# Altium footprint library fromST.PcbLib: 65 footprints (part 1 of 5)
Each footprint in its own frame and in the unit in brackets; x right, y up, seen from the top. Pads: shape width x height; smd on the part's side, far side on the other; paste and mask are expansions set on the pad; w line width, h text height; cw(c..) or ccw(c..) is an arc to the next point about the centre after c.
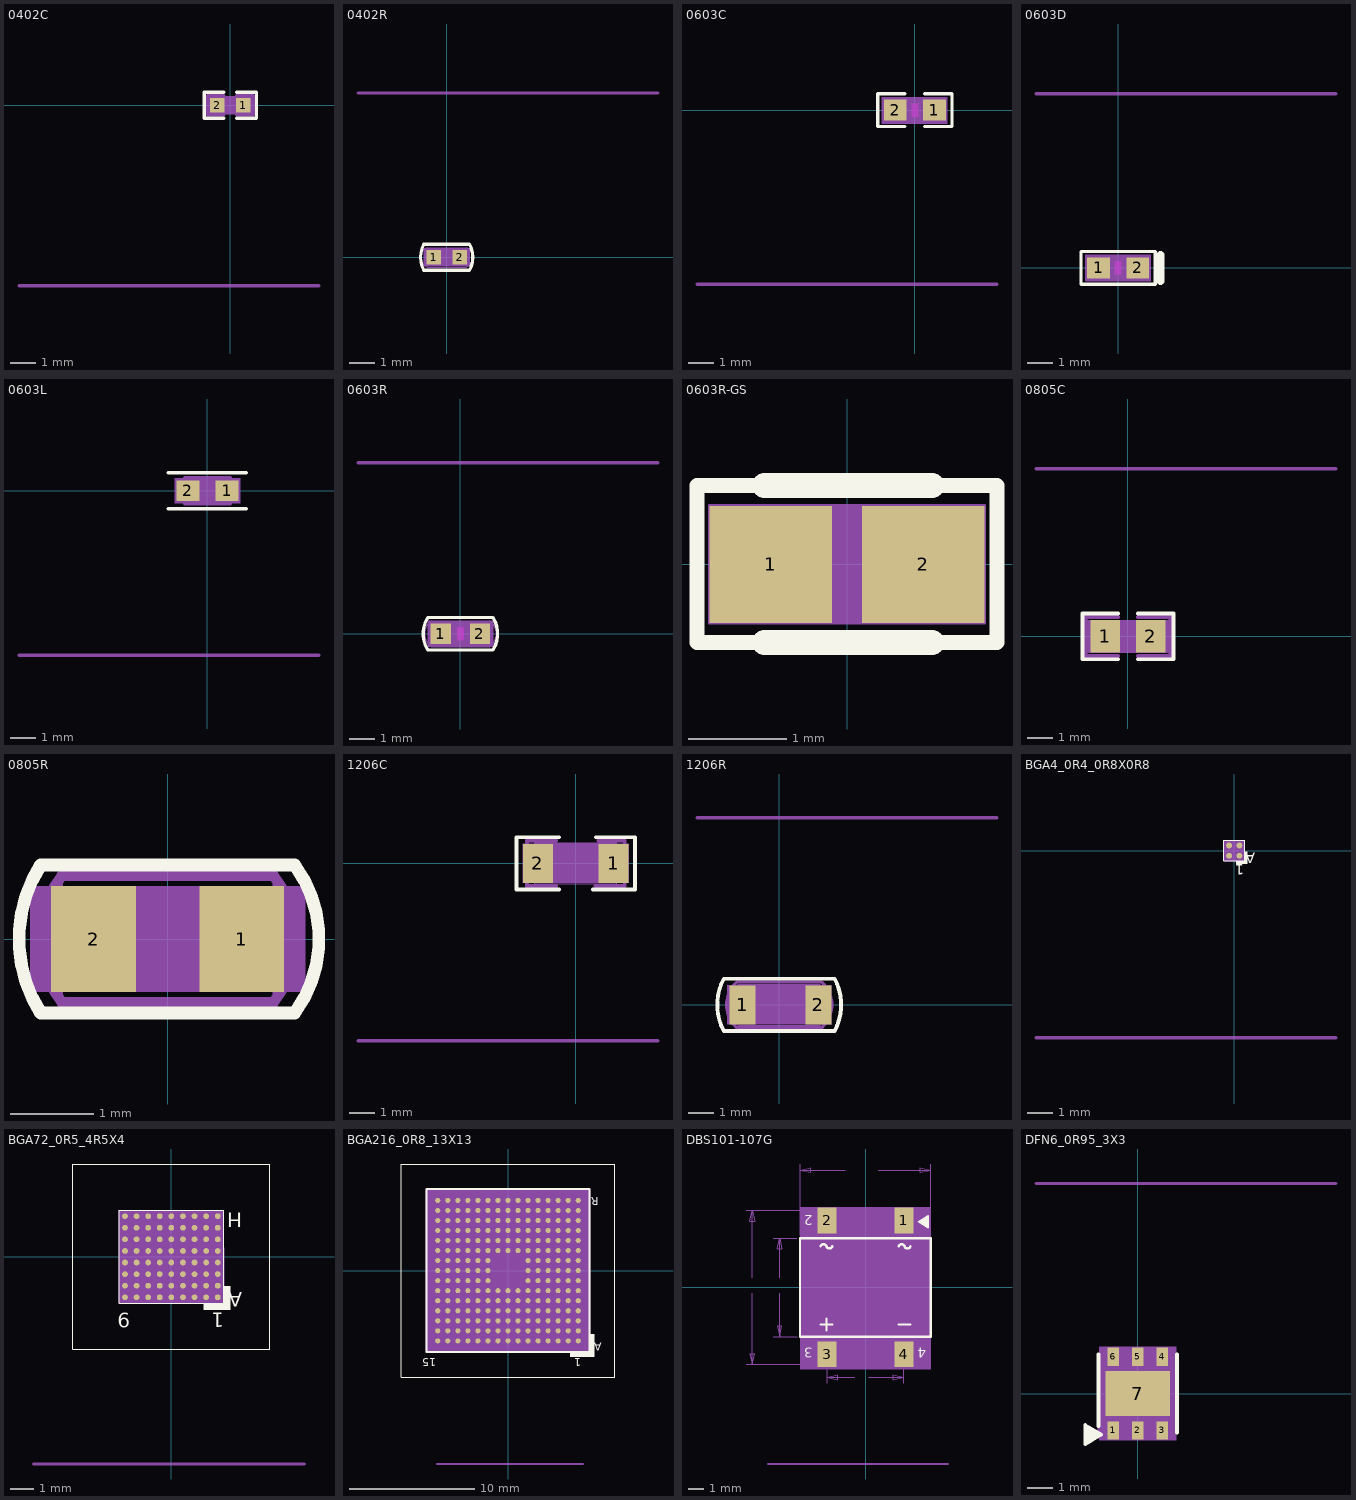
[diagram p0: the footprints below, top view; thin cyan lines are the x and y axes]

## 0402C [mil]
pads (2):
  rect 22x22 smd: 1(20,0) 2(-20,0)
Top Overlay:
  lines w5: -10,-20 -40,-20 -40,20 -10,20 ; 10,-20 40,-20 40,20 10,20
Mechanical 32:
  region: 35,14 35,-14 -35,-14 -35,14
  lines w1: -20,-10 -20,10 20,10 20,-10 -20,-10
  lines w5: -324,-277 136,-277 ; -10,-15 -35,-15 -35,15 -10,15 ; 10,-15 35,-15 35,15 10,15
  text "NO" at 5,43 h34
  text "100nF" at 0,50 h20
  text "C0402" at 0,115 h25
  text "Remark: ***" at 106,-77 h25
  text "Rev   : A1" at 106,-117 h25
  text "Date  : 2008-12-12" at 106,-157 h25
  text "Ref PN: ***" at 106,-237 h25
  text "Sofer Lib Information" at 136,-287 h25
  text "Creat : Sofer Tech" at 106,-197 h25
  text ".Designator" at 0,42 h20
  text "2" at -20,6.4 h16
  text "1" at 20,6.4 h16
3D body: height 150, standoff 0, extent -35,-14 35,14

## 0402R [mil]
pads (2):
  rect 22x22 smd: 1(-20,0) 2(20,0)
Top Overlay:
  lines w5: -35,-20 cw(c2.5,0) -35,20 35,20 cw(c-2.5,0) 35,-20 -35,-20
Mechanical 32:
  region: -35,-14 -35,14 35,14 35,-14
  lines w1: -30,-15 cw(c-23.75,0) -30,15 30,15 cw(c23.75,0) 30,-15 -30,-15 ; -20,-10 -20,10 20,10 20,-10 -20,-10
  lines w5: -136,252 324,252
  text "Approved" at 147,-10 h34
  text "10K" at 24,-10 h20
  text "R0402" at 50,-55 h25
  text "Remark: ***" at -106,52 h25
  text "Rev   : A4" at -106,92 h25
  text "Date  : 2007-11-24" at -106,132 h25
  text "Ref PN: ***" at -106,212 h25
  text "Sofer Lib Information" at -136,262 h25
  text "Creat : Sofer Tech" at -106,172 h25
  text ".Designator" at 32,-10 h20
  text "2" at 26.4,0 h16
  text "1" at -13.6,0 h16
3D body: height 150, standoff 0, extent -35,-14 35,14

## 0603C [mil]
pads (2):
  rect 35x32 smd: 1(30,0) 2(-30,0)
Top Layer keep-out:
  region: 5,10 -5,10 -5,-10 5,-10
Top Overlay:
  lines w5: -15,-25 -57,-25 -57,25 -15,25 ; 15,-25 57,-25 57,25 15,25
Mechanical 32:
  region: 50,20 50,-20 -50,-20 -50,20
  pour cut-out: 50,20 -50,20 -50,-20 50,-20
  lines w1: -15,-20 -50,-20 -50,20 -15,20 ; 15,-20 30,-20 50,-20 50,20 15,20 ; -35,-20 -35,20 35,20 35,-20 -35,-20
  lines w5: -334,-267 126,-267
  text "Remark: ***" at 96,-67 h25
  text "Rev   : B1" at 96,-107 h25
  text "Date  : 2007-05-10" at 96,-147 h25
  text "Creat : Sofer Tech" at 96,-187 h25
  text "Ref PN: ***" at 96,-227 h25
  text "Sofer Lib Information" at 126,-277 h25
  text "Approved" at -112,0 h34
  text "10nF_X7R_10%_0603" at -136,10 h20
  text "C0603" at -60,65 h30
  text ".Designator" at -40,12.67 h25
  text "2" at -36.4,0 h16
  text "1" at 23.6,0 h16
3D body: height 150, standoff 0, extent -50,-20 50,20

## 0603D [mil]
pads (2):
  rect 35x32 smd: 1(-30,0) 2(30,0)
Top Layer keep-out:
  region: -5,-10 5,-10 5,10 -5,10
Top Overlay:
  lines w5: -57,-25 -57,25 57,25 57,-25 -57,-25
  lines w12: 65,-20 65,20
Mechanical 32:
  pour cut-out: 40,20 40,-20 50,-20 50,20
  region: -50,-20 50,-20 50,20 -50,20
  pour cut-out: -50,-20 50,-20 50,20 -50,20
  lines w1: -15,-20 -50,-20 -50,20 -30,20 -15,20 ; 15,-20 50,-20 50,20 15,20 ; -35,-20 -35,20 35,20 35,-20 -35,-20
  lines w5: -126,267 334,267
  text "Rev   : B1" at -96,107 h25
  text "Date  : 2007-05-10" at -96,147 h25
  text "Creat : Sofer Tech" at -96,187 h25
  text "Ref PN: ***" at -96,227 h25
  text "Sofer Lib Information" at -126,277 h25
  text "Approved" at 0,-112 h35
  text "LED, green" at 0,-90 h20
  text "d0603" at 0,-125 h30
  text ".Designator" at 0,-42.67 h25
  text "1" at -30,-6.4 h16
  text "2" at 30,-6.4 h16
3D body: height 150, standoff 0, extent -50,-20 50,20

## 0603L [mil]
pads (2):
  rect 35x32 smd: 1(30,0) 2(-30,0)
Top Overlay:
  lines w5: -60,-27.5 60,-27.5 ; -60,27.5 60,27.5 15,27.5
Mechanical 32:
  pour cut-out: 50,19 50,-19 -50,-19 -50,19
  region: 50,19 -50,19 -50,-19 50,-19
  lines w1: -35,-20 -35,20 35,20 35,-20 -35,-20
  lines w5: -289,-252 171,-252 ; -35,-20 35,-20 ; -35,20 35,20
  text "Remark: ***" at 141,-52 h25
  text "Rev   : B1" at 141,-92 h25
  text "Date  : 2007-11-27" at 141,-132 h25
  text "Creat : Sofer Tech" at 141,-172 h25
  text "Ref PN: ***" at 141,-212 h25
  text "Sofer Lib Information" at 171,-262 h25
  text "FCM1608KF-601T03" at 0,-117 h30
  text "L0603" at 5,10 h30
  text "Approved" at -15,-100.33 h35
  text ".Designator" at 0,-11.33 h30
  text "2" at -30,-6.4 h16
  text "1" at 30,-6.4 h16
3D body: height 150, standoff 0, extent -50,-19 50,19

## 0603R [mil]
pads (2):
  rect 31x32 smd: 1(-30,0) 2(30,0)
Top Layer keep-out:
  region: -5,10 -5,-10 5,-10 5,10
Top Overlay:
  lines w5: -50,-25 cw(c-8.86,0) -50,25 50,25 cw(c8.86,0) 50,-25 -50,-25
Mechanical 32:
  region: -50,-20 50,-20 50,20 -50,20
  pour cut-out: -50,-20 50,-20 50,20 -50,20
  lines w1: -45,-20 cw(c-30,0) -45,20 45,20 cw(c30,0) 45,-20 -45,-20 ; -35,-20 -35,20 35,20 35,-20 -35,-20
  lines w5: -157,262 303,262
  text "Remark: ***" at -127,62 h25
  text "Rev   : B1" at -127,102 h25
  text "Date  : 2007-05-10" at -127,142 h25
  text "Creat : Sofer Tech" at -127,182 h25
  text "Ref PN: ***" at -127,222 h25
  text "Sofer Lib Information" at -157,272 h25
  text "13K_1%_0603" at 0,78 h20
  text "Approved" at 0,112 h34
  text "R0603" at 0,-5 h30
  text ".Designator" at -1,18 h25
  text "2" at 30,6.4 h16
  text "1" at -30,6.4 h16
3D body: height 150, standoff 0, extent -50,-20 50,20

## 0603R-GS [mil]
pads (2):
  rect 49x47 smd mask+2: 1(-30.51,0) 2(30.51,0)
Top Overlay:
  lines w6: -60.04,-31.3 60.04,-31.3 60.04,31.69 -60.04,31.69 -60.04,-31.3
  lines w10: -33,-31.3 34,-31.3 ; -33,31.69 34,31.69
  text ".Designator" at 87.5,-17 h34
Mechanical 16:
  region: -55.12,-23.62 55.12,-23.62 55.12,23.62 -55.12,23.62
  lines w1: -55.12,-23.62 55.12,-23.62 55.12,23.62 -55.12,23.62 -55.12,-23.62
Mechanical 32:
  text "2" at -30.51,10 h25
  text "1" at 30.51,10 h25
3D body: height 150, standoff 0, extent -55.12,-23.62 55.12,23.62

## 0805C [mil]
pads (2):
  rect 45x50 smd: 1(-35,0) 2(35,0)
Top Overlay:
  lines w6: -15,-35 -70,-35 -70,35 -15,35 ; 15,-35 70,-35 70,35 15,35
  text ".Designator" at 180,25 h34
Mechanical 32:
  region: -65,-25 65,-25 65,25 -65,25
  lines w1: -40,-24.6 -40,24.6 40,24.6 40,-24.6 -40,-24.6
  lines w5: -141,257 319,257
  lines w6: -15,-30 -65,-30 -65,30 -15,30 ; 15,-30 65,-30 65,30 15,30
  text "Approved" at 0,-112 h35
  text "Remark: ***" at -111,57 h25
  text "Rev   : B1" at -111,97 h25
  text "Date  : 2009-07-15" at -111,137 h25
  text "Creat : Sofer Tech" at -111,177 h25
  text "Ref PN: ***" at -111,217 h25
  text "Sofer Lib Information" at -141,267 h25
  text "100nF_100V_X7R_10%_0805" at -10,-351 h30
  text "C0805" at -15,-135 h30
  text "1" at -35,-6.4 h16
  text "2" at 35,-6.4 h16
3D body: height 150, standoff 0, extent -65,-25 65,25

## 0805R [mil]
pads (2):
  rect 40x50 smd: 1(35,0) 2(-35,0)
Top Overlay:
  lines w6: -60,-35 cw(c-5.27,0) -60,35 60,35 cw(c12.41,0) 60,-35 -60,-35
  text ".Designator" at -180,-15 h34
Mechanical 32:
  region: 65,25 65,-25 -65,-25 -65,25
  lines w1: -50,-30 -50,30 50,30 50,-30 -50,-30
  lines w5: -50,-30 cw(c-10,0) -50,30 50,30 cw(c11.25,0) 50,-30 -50,-30
  text "0_5%_0805" at 90,13.34 h25
  text "R0805" at 60,75 h30
  text "Approved" at 112,0 h35
  text "2" at -28.6,0 h16
  text "1" at 41.4,0 h16
3D body: height 150, standoff 0, extent -65,-25 65,25

## 1206C [mil]
pads (2):
  rect 46x60 smd: 1(58,0) 2(-58,0)
Top Overlay:
  lines w6: -26,-40 -91,-40 -91,40 -26,40 ; 26,-40 91,-40 91,40 31,40
Mechanical 32:
  region: 81,30 -81,30 -81,-30 81,-30
  lines w1: -63,-31.5 -63,31.5 63,31.5 63,-31.5 -63,-31.5
  lines w5: -334,-272 126,-272
  lines w6: -30,-35 -75,-35 -75,35 -30,35 ; 30,-35 75,-35 75,35 35,35
  text "2.2uF" at 10,20 h30
  text "C1206" at 10,20 h30
  text "Remark: ***" at 96,-72 h25
  text "Rev   : C1" at 96,-112 h25
  text "Date  : 2010-12-15" at 96,-152 h25
  text "Creat : Sofer Tech" at 96,-192 h25
  text "Ref PN: ***" at 96,-232 h25
  text "Sofer Lib Information" at 126,-282 h25
  text "Approved" at 0,-112 h34
  text ".Designator" at 51,21.67 h34
  text "2" at -58,-6.4 h16
  text "1" at 58,-6.4 h16
3D body: height 150, standoff 0, extent -81,-30 81,30

## 1206R [mil]
pads (2):
  rect 40x60 smd: 1(-56,0) 2(60,0)
Top Overlay:
  lines w6: -85,-40 cw(c-10,0) -85,40 85,40 cw(c10,0) 85,-40 -85,-40
Mechanical 32:
  region: -80,-30 80,-30 80,30 -80,30
  lines w1: -63,-31.5 63,-31.5 63,31.5 -63,31.5 -63,-31.5
  lines w5: -126,287 334,287 ; -65,-35 cw(c-33.65,0) -65,35 65,35 cw(c33.65,0) 65,-35 -65,-35
  text "1" at -49.6,0 h16
  text "2" at 66.4,0 h16
  text ".Designator" at 28,-20 h35
  text "Approved" at 112,0 h35
  text "Sofer Lib Information" at -126,297 h25
  text "Ref PN: ***" at -96,247 h25
  text "Creat : Sofer Tech" at -96,207 h25
  text "Date  : 2010-12-15" at -96,167 h25
  text "Rev   : C1" at -96,127 h25
  text "Remark: ***" at -96,87 h25
  text "R1206" at 50,-80 h30
  text "0.47_1%_1206" at 134,-80 h30
3D body: height 150, standoff 0, extent -80,-30 80,30

## BGA4_0R4_0R8X0R8 [mil]
pads (4):
  round 9 smd mask+2: A1(7.87,-7.87) A2(-7.87,-7.87) B1(7.87,7.87) B2(-7.87,7.87)
Top Overlay:
  pour cut-out: 3,-16 3,-20 20,-20 20,-2 16,-2 16,-16
  lines w1: -15.75,-15.75 15.75,-15.75 15.75,15.75 -15.75,15.75 -15.75,-15.75
  text "1" at 15.4,-21 h16
  text "A" at 32.4,-3 h16
  text ".Designator" at 42,32 h34
Mechanical 32:
  region: 16,16 -16,16 -16,-16 16,-16
  pour cut-out: -7,-16 16,7 16,-16
  lines w1: -15.75,-15.75 15.75,-15.75 15.75,15.75 -15.75,15.75 -15.75,-15.75
  lines w5: -304,-287 156,-287
  text "OK" at 28,0 h35
  text "Remark: LWF_PRO_01" at 126,-87 h23.62
  text "Rev   : A1" at 126,-127 h23.62
  text "Date  : 2010-12-13" at 126,-167 h23.62
  text "Creat : Yuki" at 126,-207 h23.62
  text "Ref PN: TPS22901YFPR" at 126,-247 h23.62
  text "Sofer Lib Information" at 156,-297 h23.62
  text "ESDA14V2-2BF3" at 147,128 h30
  text "BGA4_0R4_0R8X0R8" at 173,118 h30
  text "A1" at 20.67,-2.87 h16
  text "A2" at 4.93,-2.87 h16
  text "B2" at 4.93,12.87 h16
  text "B1" at 20.67,12.87 h16
3D body: height 150, standoff 0, extent -16,-16 16,16

## BGA72_0R5_4R5X4 [mm]
pads (72):
  round 0.249 smd mask+0.051: A1(2,-1.75) A2(1.5,-1.75) A3(1,-1.75) A4(0.5,-1.75) A5(0,-1.75) A6(-0.5,-1.75) A7(-1,-1.75) A8(-1.5,-1.75) A9(-2,-1.75) B1(2,-1.25) B2(1.5,-1.25) B3(1,-1.25) B4(0.5,-1.25) B5(0,-1.25) B6(-0.5,-1.25) B7(-1,-1.25) B8(-1.5,-1.25) B9(-2,-1.25) C1(2,-0.75) C2(1.5,-0.75) C3(1,-0.75) C4(0.5,-0.75) C5(0,-0.75) C6(-0.5,-0.75) C7(-1,-0.75) C8(-1.5,-0.75) C9(-2,-0.75) D1(2,-0.25) D2(1.5,-0.25) D3(1,-0.25) D4(0.5,-0.25) D5(0,-0.25) D6(-0.5,-0.25) D7(-1,-0.25) D8(-1.5,-0.25) D9(-2,-0.25) E1(2,0.25) E2(1.5,0.25) E3(1,0.25) E4(0.5,0.25) E5(0,0.25) E6(-0.5,0.25) E7(-1,0.25) E8(-1.5,0.25) E9(-2,0.25) F1(2,0.75) F2(1.5,0.75) F3(1,0.75) F4(0.5,0.75) F5(0,0.75) F6(-0.5,0.75) F7(-1,0.75) F8(-1.5,0.75) F9(-2,0.75) G1(2,1.25) G2(1.5,1.25) G3(1,1.25) G4(0.5,1.25) G5(0,1.25) G6(-0.5,1.25) G7(-1,1.25) G8(-1.5,1.25) G9(-2,1.25) H1(2,1.75) H2(1.5,1.75) H3(1,1.75) H4(0.5,1.75) H5(0,1.75) H6(-0.5,1.75) H7(-1,1.75) H8(-1.5,1.75) H9(-2,1.75)
Top Overlay:
  pour cut-out: 1.397,-2.032 1.397,-2.286 2.54,-2.286 2.54,-1.27 2.286,-1.27 2.286,-2.032
  lines w0.025: -4.25,-4 4.25,-4 4.25,4 -4.25,4 -4.25,-4 ; -2.256,-2.011 -2.256,2.011 2.256,2.011 2.256,-2.011 -2.256,-2.011
  text ".Designator" at 2.667,-4.445 h0.89
  text "1" at 2.286,-2.413 h0.64
  text "9" at -1.778,-2.413 h0.64
  text "A" at 3.048,-1.524 h0.64
  text "H" at 3.048,1.905 h0.64
Mechanical 16:
  region: 2.256,2.011 2.256,-2.011 -2.256,-2.011 -2.256,2.011
  pour cut-out: 2.256,2.011 2.256,-2.011 -2.256,-2.011 -2.256,2.011
  pour cut-out: 2.286,-2.032 -0.127,-2.032 2.286,0.381
  lines w0.025: -2.256,-2.011 -2.256,2.011 2.256,2.011 2.256,-2.011 -2.256,-2.011
  lines w0.127: -5.944,-8.941 5.74,-8.941
Mechanical 32:
  text "D6" at -0.5,-0.49 h0.3
  text "E8" at -1.5,0.01 h0.3
  text "E7" at -1,0.01 h0.3
  text "F7" at -1,0.51 h0.3
  text "H9" at -2,1.51 h0.3
  text "A4" at 0.5,-1.99 h0.3
  text "A3" at 1,-1.99 h0.3
  text "A5" at 0,-1.99 h0.3
  text "A1" at 2,-1.99 h0.3
  text "C1" at 2,-0.99 h0.3
  text "G5" at 0,1.01 h0.3
  text "E2" at 1.5,0.01 h0.3
  text "F3" at 1,0.51 h0.3
  text "G2" at 1.5,1.01 h0.3
  text "H1" at 2,1.51 h0.3
  text "D5" at 0,-0.49 h0.3
  text "D4" at 0.5,-0.49 h0.3
  text "A2" at 1.5,-1.99 h0.3
  text "B1" at 2,-1.49 h0.3
  text "C9" at -2,-0.99 h0.3
  text "D9" at -2,-0.49 h0.3
  text "E6" at -0.5,0.01 h0.3
  text "G8" at -1.5,1.01 h0.3
  text "H8" at -1.5,1.51 h0.3
  text "H7" at -1,1.51 h0.3
  text "F1" at 2,0.51 h0.3
  text "D7" at -1,-0.49 h0.3
  text "H6" at -0.5,1.51 h0.3
  text "B7" at -1,-1.49 h0.3
  text "G6" at -0.5,1.01 h0.3
  text "E9" at -2,0.01 h0.3
  text "B2" at 1.5,-1.49 h0.3
  text "D2" at 1.5,-0.49 h0.3
  text "C2" at 1.5,-0.99 h0.3
  text "G9" at -2,1.01 h0.3
  text "D8" at -1.5,-0.49 h0.3
  text "D1" at 2,-0.49 h0.3
  text "C6" at -0.5,-0.99 h0.3
  text "B9" at -2,-1.49 h0.3
  text "A9" at -2,-1.99 h0.3
  text "A7" at -1,-1.99 h0.3
  text "B6" at -0.5,-1.49 h0.3
  text "B3" at 1,-1.49 h0.3
  text "C3" at 1,-0.99 h0.3
  text "G3" at 1,1.01 h0.3
  text "G7" at -1,1.01 h0.3
  text "E1" at 2,0.01 h0.3
  text "H3" at 1,1.51 h0.3
  text "H2" at 1.5,1.51 h0.3
  text "H4" at 0.5,1.51 h0.3
  text "G4" at 0.5,1.01 h0.3
  text "F4" at 0.5,0.51 h0.3
  text "C4" at 0.5,-0.99 h0.3
  text "B4" at 0.5,-1.49 h0.3
  text "H5" at 0,1.51 h0.3
  text "F6" at -0.5,0.51 h0.3
  text "F5" at 0,0.51 h0.3
  text "E5" at 0,0.01 h0.3
  text "C5" at 0,-0.99 h0.3
  text "B5" at 0,-1.49 h0.3
  text "A6" at -0.5,-1.99 h0.3
  text "C7" at -1,-0.99 h0.3
  text "F9" at -2,0.51 h0.3
  text "F8" at -1.5,0.51 h0.3
  text "C8" at -1.5,-0.99 h0.3
  text "B8" at -1.5,-1.49 h0.3
  text "A8" at -1.5,-1.99 h0.3
  text "F2" at 1.5,0.51 h0.3
  text "E3" at 1,0.01 h0.3
  text "G1" at 2,1.01 h0.3
  text "E4" at 0.5,0.01 h0.3
  text "D3" at 1,-0.49 h0.3
  text "Sofer Lib Information" at 5.74,-9.195 h0.64
  text "Ref PN: WM8994 WCSP72" at 4.978,-7.925 h0.64
  text "Creat : Yuki" at 4.978,-6.909 h0.64
  text "Date  : 2011-07-18" at 4.978,-5.893 h0.64
  text "Rev   : A1" at 4.978,-4.877 h0.64
  text "Remark: D056-006A1" at 4.978,-3.861 h0.64
  text "WM8994ECS_R" at -0.127,0.965 h0.76
  text "BGA72_0R5_4R5X4" at -0.635,-0.254 h0.76
  text "OK" at 0,-0.711 h0.89
3D body: height 3.81, standoff 0, extent -2.256,-2.011 2.256,2.011

## BGA216_0R8_13X13 [mil]
pads (216):
  round 16 smd mask+2: A1(220.47,-220.47) A2(188.98,-220.47) A3(157.48,-220.47) A4(125.98,-220.47) A5(94.49,-220.47) A6(62.99,-220.47) A7(31.5,-220.47) A8(0,-220.47) A9(-31.5,-220.47) A10(-62.99,-220.47) A11(-94.49,-220.47) A12(-125.98,-220.47) A13(-157.48,-220.47) A14(-188.98,-220.47) A15(-220.47,-220.47) B1(220.47,-188.98) B2(188.98,-188.98) B3(157.48,-188.98) B4(125.98,-188.98) B5(94.49,-188.98) B6(62.99,-188.98) B7(31.5,-188.98) B8(0,-188.98) B9(-31.5,-188.98) B10(-62.99,-188.98) B11(-94.49,-188.98) B12(-125.98,-188.98) B13(-157.48,-188.98) B14(-188.98,-188.98) B15(-220.47,-188.98) C1(220.47,-157.48) C2(188.98,-157.48) C3(157.48,-157.48) C4(125.98,-157.48) C5(94.49,-157.48) C6(62.99,-157.48) C7(31.5,-157.48) C8(0,-157.48) C9(-31.5,-157.48) C10(-62.99,-157.48) C11(-94.49,-157.48) C12(-125.98,-157.48) C13(-157.48,-157.48) C14(-188.98,-157.48) C15(-220.47,-157.48) D1(220.47,-125.98) D2(188.98,-125.98) D3(157.48,-125.98) D4(125.98,-125.98) D5(94.49,-125.98) D6(62.99,-125.98) D7(31.5,-125.98) D8(0,-125.98) D9(-31.5,-125.98) D10(-62.99,-125.98) D11(-94.49,-125.98) D12(-125.98,-125.98) D13(-157.48,-125.98) D14(-188.98,-125.98) D15(-220.47,-125.98) E1(220.47,-94.49) E2(188.98,-94.49) E3(157.48,-94.49) E4(125.98,-94.49) E5(94.49,-94.49) E6(62.99,-94.49) E7(31.5,-94.49) E8(0,-94.49) E9(-31.5,-94.49) E10(-62.99,-94.49) E11(-94.49,-94.49) E12(-125.98,-94.49) E13(-157.48,-94.49) E14(-188.98,-94.49) E15(-220.47,-94.49) F1(220.47,-62.99) F2(188.98,-62.99) F3(157.48,-62.99) F4(125.98,-62.99) F5(94.49,-62.99) F6(62.99,-62.99) F7(31.5,-62.99) F8(0,-62.99) F9(-31.5,-62.99) F10(-62.99,-62.99) F11(-94.49,-62.99) F12(-125.98,-62.99) F13(-157.48,-62.99) F14(-188.98,-62.99) F15(-220.47,-62.99) G1(220.47,-31.5) G2(188.98,-31.5) G3(157.48,-31.5) G4(125.98,-31.5) G5(94.49,-31.5) G6(62.99,-31.5) G10(-62.99,-31.5) G11(-94.49,-31.5) G12(-125.98,-31.5) G13(-157.48,-31.5) G14(-188.98,-31.5) G15(-220.47,-31.5) H1(220.47,0) H2(188.98,0) H3(157.48,0) H4(125.98,0) H5(94.49,0) H6(62.99,0) H10(-62.99,0) H11(-94.49,0) H12(-125.98,0) H13(-157.48,0) H14(-188.98,0) H15(-220.47,0) J1(220.47,31.5) J2(188.98,31.5) J3(157.48,31.5) J4(125.98,31.5) J5(94.49,31.5) J6(62.99,31.5) J10(-62.99,31.5) J11(-94.49,31.5) J12(-125.98,31.5) J13(-157.48,31.5) J14(-188.98,31.5) J15(-220.47,31.5) K1(220.47,62.99) K2(188.98,62.99) K3(157.48,62.99) K4(125.98,62.99) K5(94.49,62.99) K6(62.99,62.99) K7(31.5,62.99) K8(0,62.99) K9(-31.5,62.99) K10(-62.99,62.99) K11(-94.49,62.99) K12(-125.98,62.99) K13(-157.48,62.99) K14(-188.98,62.99) K15(-220.47,62.99) L1(220.47,94.49) L2(188.98,94.49) L3(157.48,94.49) L4(125.98,94.49) L5(94.49,94.49) L6(62.99,94.49) L7(31.5,94.49) L8(0,94.49) L9(-31.5,94.49) L10(-62.99,94.49) L11(-94.49,94.49) L12(-125.98,94.49) L13(-157.48,94.49) L14(-188.98,94.49) L15(-220.47,94.49) M1(220.47,125.98) M2(188.98,125.98) M3(157.48,125.98) M4(125.98,125.98) M5(94.49,125.98) M6(62.99,125.98) M7(31.5,125.98) M8(0,125.98) M9(-31.5,125.98) M10(-62.99,125.98) M11(-94.49,125.98) M12(-125.98,125.98) M13(-157.48,125.98) M14(-188.98,125.98) M15(-220.47,125.98) N1(220.47,157.48) N2(188.98,157.48) N3(157.48,157.48) N4(125.98,157.48) N5(94.49,157.48) N6(62.99,157.48) N7(31.5,157.48) N8(0,157.48) N9(-31.5,157.48) N10(-62.99,157.48) N11(-94.49,157.48) N12(-125.98,157.48) N13(-157.48,157.48) N14(-188.98,157.48) N15(-220.47,157.48) P1(220.47,188.98) P2(188.98,188.98) P3(157.48,188.98) P4(125.98,188.98) P5(94.49,188.98) P6(62.99,188.98) P7(31.5,188.98) P8(0,188.98) P9(-31.5,188.98) P10(-62.99,188.98) P11(-94.49,188.98) P12(-125.98,188.98) P13(-157.48,188.98) P14(-188.98,188.98) P15(-220.47,188.98) R1(220.47,220.47) R2(188.98,220.47) R3(157.48,220.47) R4(125.98,220.47) R5(94.49,220.47) R6(62.99,220.47) R7(31.5,220.47) R8(0,220.47) R9(-31.5,220.47) R10(-62.99,220.47) R11(-94.49,220.47) R12(-125.98,220.47) R13(-157.48,220.47) R14(-188.98,220.47) R15(-220.47,220.47)
Top Overlay:
  pour cut-out: 195,-255 195,-270 270,-270 270,-200 255,-200 255,-255
  lines w1: -334.65,-334.65 334.65,-334.65 334.65,334.65 -334.65,334.65 -334.65,-334.65
  lines w6: -255.91,-255.91 -255.91,255.91 255.91,255.91 255.91,-255.91 -255.91,-255.91
  text ".Designator" at -350,-160 h30
  text "A" at 294,-226 h25
  text "R" at 285,230 h25
  text "1" at 230,-275 h25
  text "15" at -225,-275 h25
Mechanical 16:
  region: 255.91,255.91 255.91,-255.91 -255.91,-255.91 -255.91,255.91
  pour cut-out: 255.91,255.91 255.91,-255.91 -255.91,-255.91 -255.91,255.91
  pour cut-out: 255,-255 -10,-255 255,10
  lines w5: -224,-607 236,-607 ; -255.91,-255.91 -255.91,255.91 255.91,255.91 255.91,-255.91 -255.91,-255.91
Mechanical 32:
  text "L6" at 50.19,94.49 h16
  text "K8" at -12.8,62.99 h16
  text "K7" at 18.7,62.99 h16
  text "N1" at 207.67,157.48 h16
  text "M1" at 207.67,125.98 h16
  text "G12" at -145.18,-31.5 h16
  text "F10" at -82.19,-62.99 h16
  text "J10" at -82.19,31.5 h16
  text "H6" at 50.19,0 h16
  text "F9" at -44.3,-62.99 h16
  text "G10" at -82.19,-31.5 h16
  text "K9" at -44.3,62.99 h16
  text "K10" at -82.19,62.99 h16
  text "K6" at 50.19,62.99 h16
  text "J6" at 50.19,31.5 h16
  text "G6" at 50.19,-31.5 h16
  text "F6" at 50.19,-62.99 h16
  text "F7" at 18.7,-62.99 h16
  text "F8" at -12.8,-62.99 h16
  text "H10" at -82.19,0 h16
  text "F2" at 176.18,-62.99 h16
  text "L4" at 113.18,94.49 h16
  text "L5" at 81.69,94.49 h16
  text "E5" at 81.69,-94.49 h16
  text "E11" at -113.69,-94.49 h16
  text "L11" at -113.69,94.49 h16
  text "N4" at 113.18,157.48 h16
  text "P3" at 144.68,188.98 h16
  text "C15" at -239.67,-157.48 h16
  text "B15" at -239.67,-188.98 h16
  text "A7" at 18.7,-220.47 h16
  text "B4" at 113.18,-188.98 h16
  text "R14" at -208.18,220.47 h16
  text "R15" at -239.67,220.47 h16
  text "M4" at 113.18,125.98 h16
  text "L1" at 207.67,94.49 h16
  text "H15" at -239.67,0 h16
  text "G15" at -239.67,-31.5 h16
  text "G14" at -208.18,-31.5 h16
  text "B12" at -145.18,-188.98 h16
  text "C12" at -145.18,-157.48 h16
  text "L15" at -239.67,94.49 h16
  text "L14" at -208.18,94.49 h16
  text "K15" at -239.67,62.99 h16
  text "M10" at -82.19,125.98 h16
  text "L12" at -145.18,94.49 h16
  text "K13" at -176.68,62.99 h16
  text "R8" at -12.8,220.47 h16
  text "N9" at -44.3,157.48 h16
  text "P9" at -44.3,188.98 h16
  text "R9" at -44.3,220.47 h16
  text "P10" at -82.19,188.98 h16
  text "R10" at -82.19,220.47 h16
  text "R12" at -145.18,220.47 h16
  text "P11" at -113.69,188.98 h16
  text "R11" at -113.69,220.47 h16
  text "D2" at 176.18,-125.98 h16
  text "E2" at 176.18,-94.49 h16
  text "G2" at 176.18,-31.5 h16
  text "H2" at 176.18,0 h16
  text "J2" at 176.18,31.5 h16
  text "K3" at 144.68,62.99 h16
  text "K2" at 176.18,62.99 h16
  text "K1" at 207.67,62.99 h16
  text "L3" at 144.68,94.49 h16
  text "L2" at 176.18,94.49 h16
  text "M6" at 50.19,125.98 h16
  text "N6" at 50.19,157.48 h16
  text "P6" at 50.19,188.98 h16
  text "M8" at -12.8,125.98 h16
  text "N7" at 18.7,157.48 h16
  text "M7" at 18.7,125.98 h16
  text "M13" at -176.68,125.98 h16
  text "N12" at -145.18,157.48 h16
  text "N11" at -113.69,157.48 h16
  text "J3" at 144.68,31.5 h16
  text "P13" at -176.68,188.98 h16
  text "N13" at -176.68,157.48 h16
  text "P14" at -208.18,188.98 h16
  text "N14" at -208.18,157.48 h16
  text "P15" at -239.67,188.98 h16
  text "N15" at -239.67,157.48 h16
  text "M15" at -239.67,125.98 h16
  text "E12" at -145.18,-94.49 h16
  text "E13" at -176.68,-94.49 h16
  text "D13" at -176.68,-125.98 h16
  text "E14" at -208.18,-94.49 h16
  text "D14" at -208.18,-125.98 h16
  text "C14" at -208.18,-157.48 h16
  text "C13" at -176.68,-157.48 h16
  text "D6" at 50.19,-125.98 h16
  text "D4" at 113.18,-125.98 h16
  text "C2" at 176.18,-157.48 h16
  text "E4" at 113.18,-94.49 h16
  text "D5" at 81.69,-125.98 h16
  text "E3" at 144.68,-94.49 h16
  text "G3" at 144.68,-31.5 h16
  text "H3" at 144.68,0 h16
  text "G4" at 113.18,-31.5 h16
  text "R6" at 50.19,220.47 h16
  text "R7" at 18.7,220.47 h16
  text "N8" at -12.8,157.48 h16
  text "M9" at -44.3,125.98 h16
  text "M14" at -208.18,125.98 h16
  text "B10" at -82.19,-188.98 h16
  text "B9" at -44.3,-188.98 h16
  text "D10" at -82.19,-125.98 h16
  text "D7" at 18.7,-125.98 h16
  text "C6" at 50.19,-157.48 h16
  text "C5" at 81.69,-157.48 h16
  text "C4" at 113.18,-157.48 h16
  text "R2" at 176.18,220.47 h16
  text "H13" at -176.68,0 h16
  text "H12" at -145.18,0 h16
  text "J13" at -176.68,31.5 h16
  text "J12" at -145.18,31.5 h16
  text "F13" at -176.68,-62.99 h16
  text "F12" at -145.18,-62.99 h16
  text "A3" at 144.68,-220.47 h16
  text "N10" at -82.19,157.48 h16
  text "F3" at 144.68,-62.99 h16
  text "H4" at 113.18,0 h16
  text "E15" at -239.67,-94.49 h16
  text "C9" at -44.3,-157.48 h16
  text "H11" at -113.69,0 h16
  text "C1" at 207.67,-157.48 h16
  text "E7" at 18.7,-94.49 h16
  text "E8" at -12.8,-94.49 h16
  text "E9" at -44.3,-94.49 h16
  text "E10" at -82.19,-94.49 h16
  text "F4" at 113.18,-62.99 h16
  text "F5" at 81.69,-62.99 h16
  text "F11" at -113.69,-62.99 h16
  text "G5" at 81.69,-31.5 h16
  text "G11" at -113.69,-31.5 h16
  text "H5" at 81.69,0 h16
  text "J5" at 81.69,31.5 h16
  text "J11" at -113.69,31.5 h16
  text "K5" at 81.69,62.99 h16
  text "K11" at -113.69,62.99 h16
  text "L7" at 18.7,94.49 h16
  text "L8" at -12.8,94.49 h16
  text "L9" at -44.3,94.49 h16
  text "L10" at -82.19,94.49 h16
  text "M12" at -145.18,125.98 h16
  text "F14" at -208.18,-62.99 h16
  text "B14" at -208.18,-188.98 h16
  text "B13" at -176.68,-188.98 h16
  text "A12" at -145.18,-220.47 h16
  text "D12" at -145.18,-125.98 h16
  text "C11" at -113.69,-157.48 h16
  text "B11" at -113.69,-188.98 h16
  text "M11" at -113.69,125.98 h16
  text "A2" at 176.18,-220.47 h16
  text "A1" at 207.67,-220.47 h16
  text "B1" at 207.67,-188.98 h16
  text "B2" at 176.18,-188.98 h16
  text "J15" at -239.67,31.5 h16
  text "C8" at -12.8,-157.48 h16
  text "C7" at 18.7,-157.48 h16
  text "P7" at 18.7,188.98 h16
  text "D8" at -12.8,-125.98 h16
  text "J1" at 207.67,31.5 h16
  text "G13" at -176.68,-31.5 h16
  text "K12" at -145.18,62.99 h16
  text "R5" at 81.69,220.47 h16
  text "R4" at 113.18,220.47 h16
  text "P12" at -145.18,188.98 h16
  text "R13" at -176.68,220.47 h16
  text "L13" at -176.68,94.49 h16
  text "K14" at -208.18,62.99 h16
  text "A8" at -12.8,-220.47 h16
  text "N3" at 144.68,157.48 h16
  text "N2" at 176.18,157.48 h16
  text "P2" at 176.18,188.98 h16
  text "R3" at 144.68,220.47 h16
  text "F15" at -239.67,-62.99 h16
  text "M5" at 81.69,125.98 h16
  text "A10" at -82.19,-220.47 h16
  text "B6" at 50.19,-188.98 h16
  text "B5" at 81.69,-188.98 h16
  text "M3" at 144.68,125.98 h16
  text "N5" at 81.69,157.48 h16
  text "P5" at 81.69,188.98 h16
  text "E1" at 207.67,-94.49 h16
  text "F1" at 207.67,-62.99 h16
  text "D11" at -113.69,-125.98 h16
  text "C10" at -82.19,-157.48 h16
  text "A11" at -113.69,-220.47 h16
  text "A6" at 50.19,-220.47 h16
  text "A5" at 81.69,-220.47 h16
  text "P8" at -12.8,188.98 h16
  text "J14" at -208.18,31.5 h16
  text "H14" at -208.18,0 h16
  text "D9" at -44.3,-125.98 h16
  text "B8" at -12.8,-188.98 h16
  text "B3" at 144.68,-188.98 h16
  text "A4" at 113.18,-220.47 h16
  text "B7" at 18.7,-188.98 h16
  text "G1" at 207.67,-31.5 h16
  text "H1" at 207.67,0 h16
  text "J4" at 113.18,31.5 h16
  text "C3" at 144.68,-157.48 h16
  text "D3" at 144.68,-125.98 h16
  text "D15" at -239.67,-125.98 h16
  text "M2" at 176.18,125.98 h16
  text "P4" at 113.18,188.98 h16
  text "A9" at -44.3,-220.47 h16
  text "A15" at -239.67,-220.47 h16
  text "A13" at -176.68,-220.47 h16
  text "A14" at -208.18,-220.47 h16
  text "D1" at 207.67,-125.98 h16
  text "K4" at 113.18,62.99 h16
  text "E6" at 50.19,-94.49 h16
  text "R1" at 207.67,220.47 h16
  text "P1" at 207.67,188.98 h16
  text "Sofer Lib Information" at 236,-617 h25
  text "Ref PN: STM32F4" at 206,-567 h25
  text "Creat : Yuki" at 206,-527 h25
  text "Date  : 2012-08-01" at 206,-487 h25
  text "Rev   : A1" at 206,-447 h25
  text "Remark: D031-006A1" at 206,-407 h25
  text "BGA216_0R8_13X13" at -197,435 h30
  text "STM32F769NIH6" at -166,440 h30
  text "OK" at -28,0 h35
3D body: height 150, standoff 0, extent -255.91,-255.91 255.91,255.91

## DBS101-107G [mil]
pads (4):
  rect 48x66 smd: 1(98.43,171.26) 2(-98.43,171.26) 3(-98.43,-171.26) 4(98.43,-171.26)
Top Overlay:
  lines w5: 146.5,167 146.5,172 140.5,168 149.5,162 149.5,173 152.5,175 152.5,160 156.5,158 156.5,178 160.5,178 160.5,183 ; 160.5,183 135.5,168 160.5,153 160.5,183
  lines w6: -115,-95 -85,-95 ; -115,105 cw(c-107.5,102.5) -100,105 ccw(c-92.5,107.5) -85,105 ; -100,-110 -100,-80 ; 85,-95 115,-95 ; 85,105 cw(c92.5,102.5) 100,105 ccw(c107.5,107.5) 115,105 ; -167.6,-126.09 -167.6,125.88 167.05,125.88 167.05,-126.09 -167.6,-126.09
  text "4" at 155,-155 h25
  text "3" at -135,-155 h25
  text "2" at -135,185 h25
  text ".Designator" at 70,-235 h34
Mechanical 32:
  circle w20: c100,170 r10
  region: 167.32,-210 167.32,205 -167.32,205 -167.32,-210
  lines w1: -305.75,-196.85 -125.98,-196.85 ; -305.75,196.85 -124.61,196.85 ; -290,-15 -290,-196.85 ; -290,25 -290,196.85 ; -235.75,-125.98 -175.2,-125.98 ; -235.75,125.88 -175.47,125.88 ; -220,-15 -220,-125.98 ; -220,25 -220,125.88 ; -167.32,133.86 -167.32,315.75 ; -98.43,-245.75 -98.43,-179.13 ; -52,300 -167.32,300 ; -28,-230 -98.43,-230 ; 8,-230 98.43,-230 ; 32,300 167.05,300 ; 98.43,-245.75 98.43,-179.13 ; 167.05,133.75 167.05,315.75 ; -290,-196.85 -284.09,-169.29 -295.91,-169.29 -290,-196.85 ; -290,196.85 -295.91,169.29 -284.09,169.29 -290,196.85 ; -220,-125.98 -214.09,-98.43 -225.91,-98.43 -220,-125.98 ; -220,125.88 -225.91,98.32 -214.09,98.32 -220,125.88 ; -167.32,300 -139.76,294.09 -139.76,305.91 -167.32,300 ; -98.43,-230 -70.87,-235.91 -70.87,-224.09 -98.43,-230 ; 98.43,-230 70.87,-224.09 70.87,-235.91 98.43,-230 ; 167.05,300 139.49,305.91 139.49,294.09 167.05,300
  lines w5: -249,-452 211,-452 ; -167.32,-125.98 -167.32,125.98 -116.73,125.98 -116.73,196.85 -77.36,196.85 -77.36,125.98 80.12,125.98 80.12,196.85 119.49,196.85 119.49,125.98 167.32,125.98 167.32,-125.98 118.11,-125.98 118.11,-196.85 78.74,-196.85 78.74,-125.98 -78.74,-125.98 -78.74,-196.85 -118.11,-196.85 -118.11,-125.98 -167.32,-125.98
  text "10" at -278,13 h16
  text "6.3973" at -184,13 h16
  text "8.493" at 20,308 h16
  text "5" at -4,-222 h16
  text "OK" at 0,-28 h35
  text "Remark: DB101GTHRUDB107G" at 181,-252 h25
  text "Rev   : A1" at 181,-292 h25
  text "Date  : 2009-05-23" at 181,-332 h25
  text "Creat : Sofer Tech" at 181,-372 h25
  text "Ref PN: Yuki" at 181,-412 h25
  text "Sofer Lib Information" at 211,-462 h25
  text "DF01S" at 35,310 h30
  text "DBS101-107G" at -10,248 h30
  text "1" at 98.76,177.86 h16
  text "3" at -101.76,-165.99 h16
  text "4" at 95.09,-165.99 h16
  text "2" at -96.76,176.53 h16
3D body: height 150, standoff 0, extent -167.32,-210 167.32,205

## DFN6_0R95_3X3 [mil]
pads (7):
  rect 18x28 smd: 1(-37.4,-56.52) 2(0,-56.52) 3(37.4,-56.52) 4(37.4,56.52) 5(0,56.52) 6(-37.4,56.52)
  rect 99x69 smd: 7(0,0)
Top Overlay:
  lines w5: -66.5,-62 -66.5,-67 -60.5,-63 -69.5,-57 -69.5,-68 -72.5,-70 -72.5,-55 -76.5,-53 -76.5,-73 -80.5,-73 -80.5,-78 ; -80.5,-78 -80.5,-48 -55.5,-63 -80.5,-78
  lines w6: -60,-50 -60,60 ; 60,-60 60,60
Mechanical 32:
  pour cut-out: -60,20 -60,-60 20,-60
  pour cut-out: 59.06,-71.61 59.06,71.61 -59.05,71.61 -59.05,-71.61
  region: 59.06,-71.61 59.06,71.61 -59.05,71.61 -59.05,-71.61
  lines w1: -59.06,-59.06 -59.06,59.05 59.06,59.05 59.06,-59.06 -59.06,-59.06
  lines w5: -156,322 304,322 ; -59.06,-59.06 -59.06,59.06 59.06,59.06 59.06,-59.06 -59.06,-59.06
  text "7" at 0,6.4 h16
  text "2" at 0,-50.12 h16
  text "4" at 37.4,62.92 h16
  text "6" at -37.4,62.92 h16
  text "1" at -37.4,-50.12 h16
  text "5" at 0,62.92 h16
  text "3" at 37.4,-50.12 h16
  text "OK" at 0,28 h35
  text "LD39050PU33R" at 25,-31 h30
  text "DFN6_0R95_3X3" at 30,-19 h30
  text "Remark: D043-012B" at -126,122 h25
  text "Rev   : A1" at -126,162 h25
  text "Date  : 2011-02-15" at -126,202 h25
  text "Creat : Yuki" at -126,242 h25
  text "Ref PN: ST ST1S06XX" at -126,282 h25
  text "Sofer Lib Information" at -156,332 h25
  text ".Designator" at 0,14 h30
3D body: height 150, standoff 0, extent -59.05,-71.61 59.06,71.61